# Altium integrated library TI Converter Analog to Digital.IntLib: 146 symbols (part 1 of 4)
Pins are listed as number, name and electrical type; pins without a type are passive.

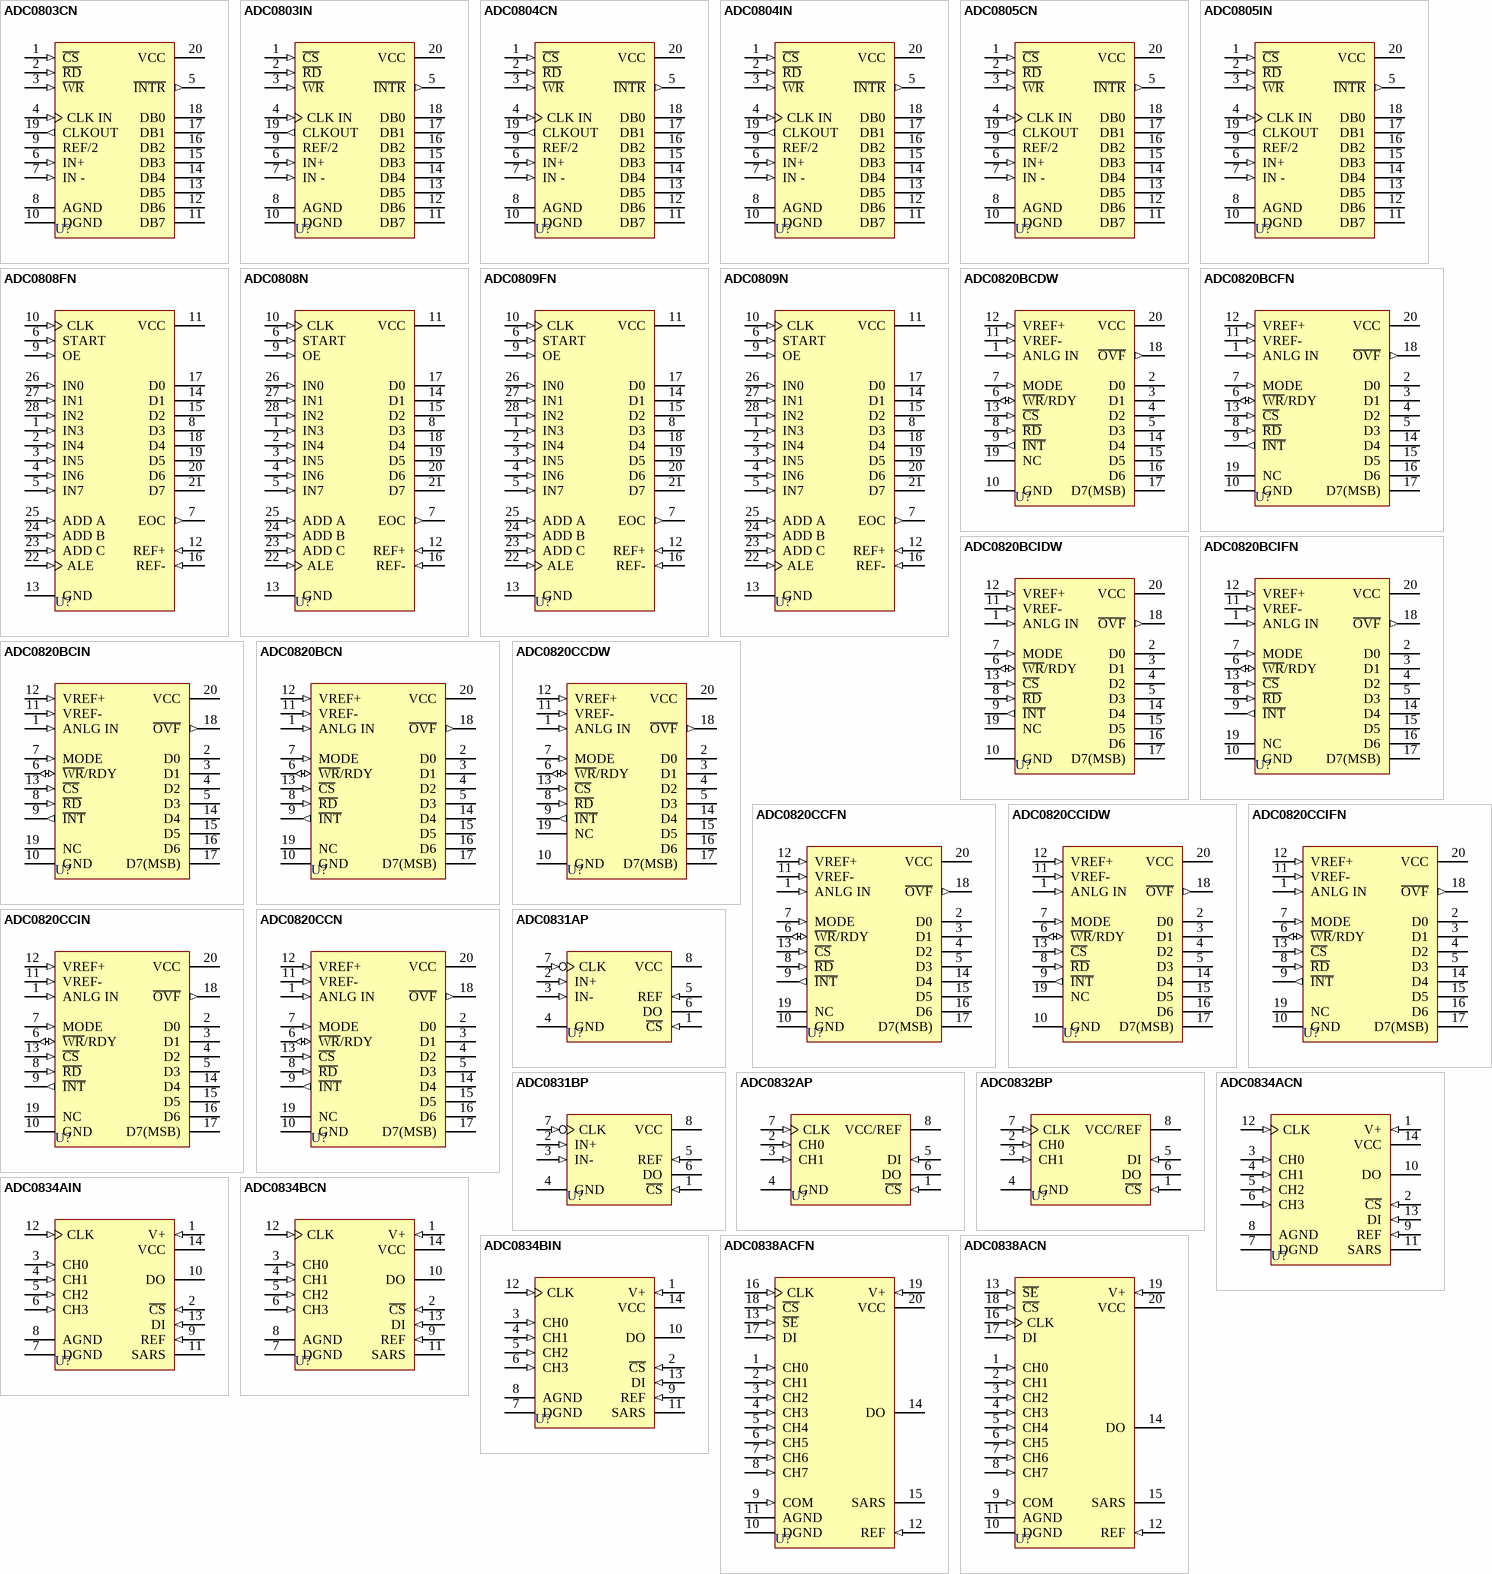
[diagram p0: symbols ADC0803CN to ADC0838ACN]

## ADC0803CN
designator U?
8-Bit Analog-to-Digital Converter with Differential Inputs; Published: 15-Apr-2002; LatestRevisionDate: 08-Jul-2005; LatestRevisionNote: Stylized 3D Model Added.; DatasheetVersion: Sep-1986; PackageVersion: Oct-1995; PackageReference: N020; Publisher: Altium Limited; PackageDescription: DIP; 20 Leads; Row Spacing 7.62 mm; Pitch 2.54 mm; ComponentLink1Description: Manufacturer Link; ComponentLink1URL: http://www.ti.com/; ComponentLink2Description: Datasheet; ComponentLink2URL: http://www-s.ti.com/sc/ds/adc0805.pdf
footprint N020 (DIP; 20 Leads; Row Spacing 7.62 mm; Pitch 2.54 mm)
3D model N020 (DIP; 20 Leads; Row Spacing 7.62 mm; Pitch 2.54 mm)
pins: 1 ~{CS} (in), 2 ~{RD} (in), 3 ~{WR} (in), 4 CLK IN (in), 5 ~{INTR} (out), 6 IN+ (in), 7 IN - (in), 8 AGND (power), 9 REF/2, 10 DGND (power), 11 DB7 (hiz), 12 DB6 (hiz), 13 DB5 (hiz), 14 DB4 (hiz), 15 DB3 (hiz), 16 DB2 (hiz), 17 DB1 (hiz), 18 DB0 (hiz), 19 CLKOUT (out), 20 VCC (power)

## ADC0803IN
designator U?
8-Bit Analog-to-Digital Converter with Differential Inputs; Published: 15-Apr-2002; LatestRevisionDate: 08-Jul-2005; LatestRevisionNote: Stylized 3D Model Added.; DatasheetVersion: Sep-1986; PackageVersion: Oct-1995; PackageReference: N020; Publisher: Altium Limited; PackageDescription: DIP; 20 Leads; Row Spacing 7.62 mm; Pitch 2.54 mm; ComponentLink1Description: Manufacturer Link; ComponentLink1URL: http://www.ti.com/; ComponentLink2Description: Datasheet; ComponentLink2URL: http://www-s.ti.com/sc/ds/adc0805.pdf
footprint N020 (DIP; 20 Leads; Row Spacing 7.62 mm; Pitch 2.54 mm)
3D model N020 (DIP; 20 Leads; Row Spacing 7.62 mm; Pitch 2.54 mm)
pins: 1 ~{CS} (in), 2 ~{RD} (in), 3 ~{WR} (in), 4 CLK IN (in), 5 ~{INTR} (out), 6 IN+ (in), 7 IN - (in), 8 AGND (power), 9 REF/2, 10 DGND (power), 11 DB7 (hiz), 12 DB6 (hiz), 13 DB5 (hiz), 14 DB4 (hiz), 15 DB3 (hiz), 16 DB2 (hiz), 17 DB1 (hiz), 18 DB0 (hiz), 19 CLKOUT (out), 20 VCC (power)

## ADC0804CN
designator U?
8-Bit Analog-to-Digital Converter with Differential Inputs; ComponentAvailability: Obsolete; Published: 15-Apr-2002; LatestRevisionDate: 08-Jul-2005; LatestRevisionNote: Stylized 3D Model Added.; DatasheetVersion: Oct-1988; PackageVersion: Oct-1995; PackageReference: N020; Publisher: Altium Limited; PackageDescription: DIP; 20 Leads; Row Spacing 7.62 mm; Pitch 2.54 mm; ComponentLink1Description: Manufacturer Link; ComponentLink1URL: http://www.ti.com/; ComponentLink2Description: Datasheet; ComponentLink2URL: http://www-s.ti.com/sc/ds/adc0804.pdf
footprint N020 (DIP; 20 Leads; Row Spacing 7.62 mm; Pitch 2.54 mm)
3D model N020 (DIP; 20 Leads; Row Spacing 7.62 mm; Pitch 2.54 mm)
pins: 1 ~{CS} (in), 2 ~{RD} (in), 3 ~{WR} (in), 4 CLK IN (in), 5 ~{INTR} (out), 6 IN+ (in), 7 IN - (in), 8 AGND (power), 9 REF/2, 10 DGND (power), 11 DB7 (hiz), 12 DB6 (hiz), 13 DB5 (hiz), 14 DB4 (hiz), 15 DB3 (hiz), 16 DB2 (hiz), 17 DB1 (hiz), 18 DB0 (hiz), 19 CLKOUT (out), 20 VCC (power)

## ADC0804IN
designator U?
8-Bit Analog-to-Digital Converter with Differential Inputs; ComponentAvailability: Obsolete; Published: 15-Apr-2002; LatestRevisionDate: 08-Jul-2005; LatestRevisionNote: Stylized 3D Model Added.; DatasheetVersion: Oct-1988; PackageVersion: Oct-1995; PackageReference: N020; Publisher: Altium Limited; PackageDescription: DIP; 20 Leads; Row Spacing 7.62 mm; Pitch 2.54 mm; ComponentLink1Description: Manufacturer Link; ComponentLink1URL: http://www.ti.com/; ComponentLink2Description: Datasheet; ComponentLink2URL: http://www-s.ti.com/sc/ds/adc0804.pdf
footprint N020 (DIP; 20 Leads; Row Spacing 7.62 mm; Pitch 2.54 mm)
3D model N020 (DIP; 20 Leads; Row Spacing 7.62 mm; Pitch 2.54 mm)
pins: 1 ~{CS} (in), 2 ~{RD} (in), 3 ~{WR} (in), 4 CLK IN (in), 5 ~{INTR} (out), 6 IN+ (in), 7 IN - (in), 8 AGND (power), 9 REF/2, 10 DGND (power), 11 DB7 (hiz), 12 DB6 (hiz), 13 DB5 (hiz), 14 DB4 (hiz), 15 DB3 (hiz), 16 DB2 (hiz), 17 DB1 (hiz), 18 DB0 (hiz), 19 CLKOUT (out), 20 VCC (power)

## ADC0805CN
designator U?
8-Bit Analog-to-Digital Converter with Differential Inputs; Published: 15-Apr-2002; LatestRevisionDate: 08-Jul-2005; LatestRevisionNote: Stylized 3D Model Added.; DatasheetVersion: Sep-1986; PackageVersion: Oct-1995; PackageReference: N020; Publisher: Altium Limited; PackageDescription: DIP; 20 Leads; Row Spacing 7.62 mm; Pitch 2.54 mm; ComponentLink1Description: Manufacturer Link; ComponentLink1URL: http://www.ti.com/; ComponentLink2Description: Datasheet; ComponentLink2URL: http://www-s.ti.com/sc/ds/adc0805.pdf
footprint N020 (DIP; 20 Leads; Row Spacing 7.62 mm; Pitch 2.54 mm)
3D model N020 (DIP; 20 Leads; Row Spacing 7.62 mm; Pitch 2.54 mm)
pins: 1 ~{CS} (in), 2 ~{RD} (in), 3 ~{WR} (in), 4 CLK IN (in), 5 ~{INTR} (out), 6 IN+ (in), 7 IN - (in), 8 AGND (power), 9 REF/2, 10 DGND (power), 11 DB7 (hiz), 12 DB6 (hiz), 13 DB5 (hiz), 14 DB4 (hiz), 15 DB3 (hiz), 16 DB2 (hiz), 17 DB1 (hiz), 18 DB0 (hiz), 19 CLKOUT (out), 20 VCC (power)

## ADC0805IN
designator U?
8-Bit Analog-to-Digital Converter with Differential Inputs; Published: 15-Apr-2002; LatestRevisionDate: 08-Jul-2005; LatestRevisionNote: Stylized 3D Model Added.; DatasheetVersion: Sep-1986; PackageVersion: Oct-1995; PackageReference: N020; Publisher: Altium Limited; PackageDescription: DIP; 20 Leads; Row Spacing 7.62 mm; Pitch 2.54 mm; ComponentLink1Description: Manufacturer Link; ComponentLink1URL: http://www.ti.com/; ComponentLink2Description: Datasheet; ComponentLink2URL: http://www-s.ti.com/sc/ds/adc0805.pdf
footprint N020 (DIP; 20 Leads; Row Spacing 7.62 mm; Pitch 2.54 mm)
3D model N020 (DIP; 20 Leads; Row Spacing 7.62 mm; Pitch 2.54 mm)
pins: 1 ~{CS} (in), 2 ~{RD} (in), 3 ~{WR} (in), 4 CLK IN (in), 5 ~{INTR} (out), 6 IN+ (in), 7 IN - (in), 8 AGND (power), 9 REF/2, 10 DGND (power), 11 DB7 (hiz), 12 DB6 (hiz), 13 DB5 (hiz), 14 DB4 (hiz), 15 DB3 (hiz), 16 DB2 (hiz), 17 DB1 (hiz), 18 DB0 (hiz), 19 CLKOUT (out), 20 VCC (power)

## ADC0808FN
designator U?
CMOS Analog-to-Digital Converter with 8-Channel Multiplexer; ComponentAvailability: Obsolete; Published: 15-Apr-2002; LatestRevisionDate: 13-Apr-2006; LatestRevisionNote: IPC-7351 Footprint Added.; DatasheetVersion: May-1988; PackageVersion: Oct-1994; PackageReference: FN028; Publisher: Altium Limited; PackageDescription: 28-Pin Leaded Chip Carrier 1.27 mm Pitch; Code_JEDEC: MS-018; Code_IPC: PLCC-28; ComponentLink1Description: Manufacturer Link; ComponentLink1URL: http://www.ti.com/
footprint FN028_N (Leaded Chip Carrier, 28-Leads, Body 11.5x11.5mm, Pitch 1.27mm, IPC Medium Density)
footprint FN028_L (Leaded Chip Carrier, 28-Leads, Body 11.5x11.5mm, Pitch 1.27mm, IPC High Density)
footprint FN028_M (Leaded Chip Carrier, 28-Leads, Body 11.5x11.5mm, Pitch 1.27mm, IPC Low Density)
3D model ADC0808-FN028 (28-Pin Leaded Chip Carrier 1.27 mm Pitch)
pins: 1 IN3 (in), 2 IN4 (in), 3 IN5 (in), 4 IN6 (in), 5 IN7 (in), 6 START (in), 7 EOC (out), 8 D3 (hiz), 9 OE (in), 10 CLK (in), 11 VCC (power), 12 REF+ (in), 13 GND (power), 14 D1 (hiz), 15 D2 (hiz), 16 REF- (in), 17 D0 (hiz), 18 D4 (hiz), 19 D5 (hiz), 20 D6 (hiz), 21 D7 (hiz), 22 ALE (in), 23 ADD C (in), 24 ADD B (in), 25 ADD A (in), 26 IN0 (in), 27 IN1 (in), 28 IN2 (in)

## ADC0808N
designator U?
CMOS Analog-to-Digital Converter with 8-Channel Multiplexer; ComponentAvailability: Obsolete; Published: 15-Apr-2002; LatestRevisionDate: 08-Jul-2005; LatestRevisionNote: Stylized 3D Model Added.; DatasheetVersion: May-1988; PackageVersion: Oct-1994; PackageReference: N028; Publisher: Altium Limited; PackageDescription: DIP; 28 Leads; Row Spacing 15.24 mm; Pitch 2.54 mm; ComponentLink1Description: Manufacturer Link; ComponentLink1URL: http://www.ti.com/
footprint N028 (DIP; 28 Leads; Row Spacing 15.24 mm; Pitch 2.54 mm)
3D model N028 (DIP; 28 Leads; Row Spacing 15.24 mm; Pitch 2.54 mm)
pins: 1 IN3 (in), 2 IN4 (in), 3 IN5 (in), 4 IN6 (in), 5 IN7 (in), 6 START (in), 7 EOC (out), 8 D3 (hiz), 9 OE (in), 10 CLK (in), 11 VCC (power), 12 REF+ (in), 13 GND (power), 14 D1 (hiz), 15 D2 (hiz), 16 REF- (in), 17 D0 (hiz), 18 D4 (hiz), 19 D5 (hiz), 20 D6 (hiz), 21 D7 (hiz), 22 ALE (in), 23 ADD C (in), 24 ADD B (in), 25 ADD A (in), 26 IN0 (in), 27 IN1 (in), 28 IN2 (in)

## ADC0809FN
designator U?
CMOS Analog-to-Digital Converter with 8-Channel Multiplexer; ComponentAvailability: Obsolete; Published: 15-Apr-2002; LatestRevisionDate: 13-Apr-2006; LatestRevisionNote: IPC-7351 Footprint Added.; DatasheetVersion: May-1988; PackageVersion: Oct-1994; PackageReference: FN028; Publisher: Altium Limited; PackageDescription: 28-Pin Leaded Chip Carrier 1.27 mm Pitch; Code_JEDEC: MS-018; Code_IPC: PLCC-28; ComponentLink1Description: Manufacturer Link; ComponentLink1URL: http://www.ti.com/
footprint FN028_N (Leaded Chip Carrier, 28-Leads, Body 11.5x11.5mm, Pitch 1.27mm, IPC Medium Density)
footprint FN028_L (Leaded Chip Carrier, 28-Leads, Body 11.5x11.5mm, Pitch 1.27mm, IPC High Density)
footprint FN028_M (Leaded Chip Carrier, 28-Leads, Body 11.5x11.5mm, Pitch 1.27mm, IPC Low Density)
3D model ADC0809-FN028 (28-Pin Leaded Chip Carrier 1.27 mm Pitch)
pins: 1 IN3 (in), 2 IN4 (in), 3 IN5 (in), 4 IN6 (in), 5 IN7 (in), 6 START (in), 7 EOC (out), 8 D3 (hiz), 9 OE (in), 10 CLK (in), 11 VCC (power), 12 REF+ (in), 13 GND (power), 14 D1 (hiz), 15 D2 (hiz), 16 REF- (in), 17 D0 (hiz), 18 D4 (hiz), 19 D5 (hiz), 20 D6 (hiz), 21 D7 (hiz), 22 ALE (in), 23 ADD C (in), 24 ADD B (in), 25 ADD A (in), 26 IN0 (in), 27 IN1 (in), 28 IN2 (in)

## ADC0809N
designator U?
CMOS Analog-to-Digital Converter with 8-Channel Multiplexer; ComponentAvailability: Obsolete; Published: 15-Apr-2002; LatestRevisionDate: 08-Jul-2005; LatestRevisionNote: Stylized 3D Model Added.; DatasheetVersion: May-1988; PackageVersion: Oct-1994; PackageReference: N028; Publisher: Altium Limited; PackageDescription: DIP; 28 Leads; Row Spacing 15.24 mm; Pitch 2.54 mm; ComponentLink1Description: Manufacturer Link; ComponentLink1URL: http://www.ti.com/
footprint N028 (DIP; 28 Leads; Row Spacing 15.24 mm; Pitch 2.54 mm)
3D model N028 (DIP; 28 Leads; Row Spacing 15.24 mm; Pitch 2.54 mm)
pins: 1 IN3 (in), 2 IN4 (in), 3 IN5 (in), 4 IN6 (in), 5 IN7 (in), 6 START (in), 7 EOC (out), 8 D3 (hiz), 9 OE (in), 10 CLK (in), 11 VCC (power), 12 REF+ (in), 13 GND (power), 14 D1 (hiz), 15 D2 (hiz), 16 REF- (in), 17 D0 (hiz), 18 D4 (hiz), 19 D5 (hiz), 20 D6 (hiz), 21 D7 (hiz), 22 ALE (in), 23 ADD C (in), 24 ADD B (in), 25 ADD A (in), 26 IN0 (in), 27 IN1 (in), 28 IN2 (in)

## ADC0820BCDW
designator U?
Advanced LinCMOS High-Speed 8-Bit Analog-to-Digital Converter using Modified FLASH Techniques; Published: 15-Apr-2002; LatestRevisionDate: 13-Apr-2006; LatestRevisionNote: IPC-7351 Footprint Added.; DatasheetVersion: Feb-1989; PackageVersion: Mar-2000; PackageReference: DW020; Publisher: Altium Limited; PackageDescription: 20-Pin Plastic Small Outline Integrated Circuit 1.27 mm Pitch; Code_JEDEC: MS-013; Code_IPC: SOIC127P1030-20; ComponentLink1Description: Manufacturer Link; ComponentLink1URL: http://www.ti.com/
footprint DW020_N (SOIC, 20-Leads, Body 12.8x7.5mm, Pitch 1.27mm, IPC Medium Density)
footprint DW020_L (SOIC, 20-Leads, Body 12.8x7.5mm, Pitch 1.27mm, IPC High Density)
footprint DW020_M (SOIC, 20-Leads, Body 12.8x7.5mm, Pitch 1.27mm, IPC Low Density)
3D model DW020 (20-Pin Plastic Small Outline Integrated Circuit 1.27 mm Pitch)
pins: 1 ANLG IN (in), 2 D0 (hiz), 3 D1 (hiz), 4 D2 (hiz), 5 D3 (hiz), 6 ~{WR}/RDY (io), 7 MODE (in), 8 ~{RD} (in), 9 ~{INT} (out), 10 GND (power), 11 VREF- (in), 12 VREF+ (in), 13 ~{CS} (in), 14 D4 (hiz), 15 D5 (hiz), 16 D6 (hiz), 17 D7(MSB) (hiz), 18 ~{OVF} (out), 19 NC, 20 VCC (power)

## ADC0820BCFN
designator U?
Advanced LinCMOS High-Speed 8-Bit Analog-to-Digital Converter using Modified FLASH Techniques; Published: 15-Apr-2002; LatestRevisionDate: 13-Apr-2006; LatestRevisionNote: IPC-7351 Footprint Added.; DatasheetVersion: Feb-1989; PackageVersion: Oct-1994; PackageReference: FN020; Publisher: Altium Limited; PackageDescription: 20-Pin Leaded Chip Carrier 1.27 mm Pitch; Code_IPC: PLCC-20; ComponentLink1Description: Manufacturer Link; ComponentLink1URL: http://www.ti.com/
footprint FN020_N (Leaded Chip Carrier, 20-Leads, Body 9x9mm, Pitch 1.27mm, IPC Medium Density)
footprint FN020_L (Leaded Chip Carrier, 20-Leads, Body 9x9mm, Pitch 1.27mm, IPC High Density)
footprint FN020_M (Leaded Chip Carrier, 20-Leads, Body 9x9mm, Pitch 1.27mm, IPC Low Density)
3D model ADC0820-FN020 (20-Pin Leaded Chip Carrier 1.27 mm Pitch)
pins: 1 ANLG IN (in), 2 D0 (hiz), 3 D1 (hiz), 4 D2 (hiz), 5 D3 (hiz), 6 ~{WR}/RDY (io), 7 MODE (in), 8 ~{RD} (in), 9 ~{INT} (out), 10 GND (power), 11 VREF- (in), 12 VREF+ (in), 13 ~{CS} (in), 14 D4 (hiz), 15 D5 (hiz), 16 D6 (hiz), 17 D7(MSB) (hiz), 18 ~{OVF} (out), 19 NC, 20 VCC (power)

## ADC0820BCIDW
designator U?
Advanced LinCMOS High-Speed 8-Bit Analog-to-Digital Converter using Modified FLASH Techniques; Published: 15-Apr-2002; LatestRevisionDate: 13-Apr-2006; LatestRevisionNote: IPC-7351 Footprint Added.; DatasheetVersion: Feb-1989; PackageVersion: Mar-2000; PackageReference: DW020; Publisher: Altium Limited; PackageDescription: 20-Pin Plastic Small Outline Integrated Circuit 1.27 mm Pitch; Code_JEDEC: MS-013; Code_IPC: SOIC127P1030-20; ComponentLink1Description: Manufacturer Link; ComponentLink1URL: http://www.ti.com/
footprint DW020_N (SOIC, 20-Leads, Body 12.8x7.5mm, Pitch 1.27mm, IPC Medium Density)
footprint DW020_L (SOIC, 20-Leads, Body 12.8x7.5mm, Pitch 1.27mm, IPC High Density)
footprint DW020_M (SOIC, 20-Leads, Body 12.8x7.5mm, Pitch 1.27mm, IPC Low Density)
3D model DW020 (20-Pin Plastic Small Outline Integrated Circuit 1.27 mm Pitch)
pins: 1 ANLG IN (in), 2 D0 (hiz), 3 D1 (hiz), 4 D2 (hiz), 5 D3 (hiz), 6 ~{WR}/RDY (io), 7 MODE (in), 8 ~{RD} (in), 9 ~{INT} (out), 10 GND (power), 11 VREF- (in), 12 VREF+ (in), 13 ~{CS} (in), 14 D4 (hiz), 15 D5 (hiz), 16 D6 (hiz), 17 D7(MSB) (hiz), 18 ~{OVF} (out), 19 NC, 20 VCC (power)

## ADC0820BCIFN
designator U?
Advanced LinCMOS High-Speed 8-Bit Analog-to-Digital Converter using Modified FLASH Techniques; Published: 15-Apr-2002; LatestRevisionDate: 13-Apr-2006; LatestRevisionNote: IPC-7351 Footprint Added.; DatasheetVersion: Feb-1989; PackageVersion: Oct-1994; PackageReference: FN020; Publisher: Altium Limited; PackageDescription: 20-Pin Leaded Chip Carrier 1.27 mm Pitch; Code_IPC: PLCC-20; ComponentLink1Description: Manufacturer Link; ComponentLink1URL: http://www.ti.com/
footprint FN020_N (Leaded Chip Carrier, 20-Leads, Body 9x9mm, Pitch 1.27mm, IPC Medium Density)
footprint FN020_L (Leaded Chip Carrier, 20-Leads, Body 9x9mm, Pitch 1.27mm, IPC High Density)
footprint FN020_M (Leaded Chip Carrier, 20-Leads, Body 9x9mm, Pitch 1.27mm, IPC Low Density)
3D model ADC0820-FN020 (20-Pin Leaded Chip Carrier 1.27 mm Pitch)
pins: 1 ANLG IN (in), 2 D0 (hiz), 3 D1 (hiz), 4 D2 (hiz), 5 D3 (hiz), 6 ~{WR}/RDY (io), 7 MODE (in), 8 ~{RD} (in), 9 ~{INT} (out), 10 GND (power), 11 VREF- (in), 12 VREF+ (in), 13 ~{CS} (in), 14 D4 (hiz), 15 D5 (hiz), 16 D6 (hiz), 17 D7(MSB) (hiz), 18 ~{OVF} (out), 19 NC, 20 VCC (power)

## ADC0820BCIN
designator U?
Advanced LinCMOS High-Speed 8-Bit Analog-to-Digital Converter using Modified FLASH Techniques; Published: 15-Apr-2002; LatestRevisionDate: 08-Jul-2005; LatestRevisionNote: Stylized 3D Model Added.; DatasheetVersion: Feb-1989; PackageVersion: Oct-1995; PackageReference: N020; Publisher: Altium Limited; PackageDescription: DIP; 20 Leads; Row Spacing 7.62 mm; Pitch 2.54 mm; ComponentLink1Description: Manufacturer Link; ComponentLink1URL: http://www.ti.com/
footprint N020 (DIP; 20 Leads; Row Spacing 7.62 mm; Pitch 2.54 mm)
3D model N020 (DIP; 20 Leads; Row Spacing 7.62 mm; Pitch 2.54 mm)
pins: 1 ANLG IN (in), 2 D0 (hiz), 3 D1 (hiz), 4 D2 (hiz), 5 D3 (hiz), 6 ~{WR}/RDY (io), 7 MODE (in), 8 ~{RD} (in), 9 ~{INT} (out), 10 GND (power), 11 VREF- (in), 12 VREF+ (in), 13 ~{CS} (in), 14 D4 (hiz), 15 D5 (hiz), 16 D6 (hiz), 17 D7(MSB) (hiz), 18 ~{OVF} (out), 19 NC, 20 VCC (power)

## ADC0820BCN
designator U?
Advanced LinCMOS High-Speed 8-Bit Analog-to-Digital Converter using Modified FLASH Techniques; Published: 15-Apr-2002; LatestRevisionDate: 08-Jul-2005; LatestRevisionNote: Stylized 3D Model Added.; DatasheetVersion: Feb-1989; PackageVersion: Oct-1995; PackageReference: N020; Publisher: Altium Limited; PackageDescription: DIP; 20 Leads; Row Spacing 7.62 mm; Pitch 2.54 mm; ComponentLink1Description: Manufacturer Link; ComponentLink1URL: http://www.ti.com/
footprint N020 (DIP; 20 Leads; Row Spacing 7.62 mm; Pitch 2.54 mm)
3D model N020 (DIP; 20 Leads; Row Spacing 7.62 mm; Pitch 2.54 mm)
pins: 1 ANLG IN (in), 2 D0 (hiz), 3 D1 (hiz), 4 D2 (hiz), 5 D3 (hiz), 6 ~{WR}/RDY (io), 7 MODE (in), 8 ~{RD} (in), 9 ~{INT} (out), 10 GND (power), 11 VREF- (in), 12 VREF+ (in), 13 ~{CS} (in), 14 D4 (hiz), 15 D5 (hiz), 16 D6 (hiz), 17 D7(MSB) (hiz), 18 ~{OVF} (out), 19 NC, 20 VCC (power)

## ADC0820CCDW
designator U?
Advanced LinCMOS High-Speed 8-Bit Analog-to-Digital Converter using Modified FLASH Techniques; Published: 15-Apr-2002; LatestRevisionDate: 13-Apr-2006; LatestRevisionNote: IPC-7351 Footprint Added.; DatasheetVersion: Feb-1989; PackageVersion: Mar-2000; PackageReference: DW020; Publisher: Altium Limited; PackageDescription: 20-Pin Plastic Small Outline Integrated Circuit 1.27 mm Pitch; Code_JEDEC: MS-013; Code_IPC: SOIC127P1030-20; ComponentLink1Description: Manufacturer Link; ComponentLink1URL: http://www.ti.com/
footprint DW020_N (SOIC, 20-Leads, Body 12.8x7.5mm, Pitch 1.27mm, IPC Medium Density)
footprint DW020_L (SOIC, 20-Leads, Body 12.8x7.5mm, Pitch 1.27mm, IPC High Density)
footprint DW020_M (SOIC, 20-Leads, Body 12.8x7.5mm, Pitch 1.27mm, IPC Low Density)
3D model DW020 (20-Pin Plastic Small Outline Integrated Circuit 1.27 mm Pitch)
pins: 1 ANLG IN (in), 2 D0 (hiz), 3 D1 (hiz), 4 D2 (hiz), 5 D3 (hiz), 6 ~{WR}/RDY (io), 7 MODE (in), 8 ~{RD} (in), 9 ~{INT} (out), 10 GND (power), 11 VREF- (in), 12 VREF+ (in), 13 ~{CS} (in), 14 D4 (hiz), 15 D5 (hiz), 16 D6 (hiz), 17 D7(MSB) (hiz), 18 ~{OVF} (out), 19 NC, 20 VCC (power)

## ADC0820CCFN
designator U?
Advanced LinCMOS High-Speed 8-Bit Analog-to-Digital Converter using Modified FLASH Techniques; Published: 15-Apr-2002; LatestRevisionDate: 13-Apr-2006; LatestRevisionNote: IPC-7351 Footprint Added.; DatasheetVersion: Feb-1989; PackageVersion: Oct-1994; PackageReference: FN020; Publisher: Altium Limited; PackageDescription: 20-Pin Leaded Chip Carrier 1.27 mm Pitch; Code_IPC: PLCC-20; ComponentLink1Description: Manufacturer Link; ComponentLink1URL: http://www.ti.com/
footprint FN020_N (Leaded Chip Carrier, 20-Leads, Body 9x9mm, Pitch 1.27mm, IPC Medium Density)
footprint FN020_L (Leaded Chip Carrier, 20-Leads, Body 9x9mm, Pitch 1.27mm, IPC High Density)
footprint FN020_M (Leaded Chip Carrier, 20-Leads, Body 9x9mm, Pitch 1.27mm, IPC Low Density)
3D model ADC0820-FN020 (20-Pin Leaded Chip Carrier 1.27 mm Pitch)
pins: 1 ANLG IN (in), 2 D0 (hiz), 3 D1 (hiz), 4 D2 (hiz), 5 D3 (hiz), 6 ~{WR}/RDY (io), 7 MODE (in), 8 ~{RD} (in), 9 ~{INT} (out), 10 GND (power), 11 VREF- (in), 12 VREF+ (in), 13 ~{CS} (in), 14 D4 (hiz), 15 D5 (hiz), 16 D6 (hiz), 17 D7(MSB) (hiz), 18 ~{OVF} (out), 19 NC, 20 VCC (power)

## ADC0820CCIDW
designator U?
Advanced LinCMOS High-Speed 8-Bit Analog-to-Digital Converter using Modified FLASH Techniques; Published: 15-Apr-2002; LatestRevisionDate: 13-Apr-2006; LatestRevisionNote: IPC-7351 Footprint Added.; DatasheetVersion: Feb-1989; PackageVersion: Mar-2000; PackageReference: DW020; Publisher: Altium Limited; PackageDescription: 20-Pin Plastic Small Outline Integrated Circuit 1.27 mm Pitch; Code_JEDEC: MS-013; Code_IPC: SOIC127P1030-20; ComponentLink1Description: Manufacturer Link; ComponentLink1URL: http://www.ti.com/
footprint DW020_N (SOIC, 20-Leads, Body 12.8x7.5mm, Pitch 1.27mm, IPC Medium Density)
footprint DW020_L (SOIC, 20-Leads, Body 12.8x7.5mm, Pitch 1.27mm, IPC High Density)
footprint DW020_M (SOIC, 20-Leads, Body 12.8x7.5mm, Pitch 1.27mm, IPC Low Density)
3D model DW020 (20-Pin Plastic Small Outline Integrated Circuit 1.27 mm Pitch)
pins: 1 ANLG IN (in), 2 D0 (hiz), 3 D1 (hiz), 4 D2 (hiz), 5 D3 (hiz), 6 ~{WR}/RDY (io), 7 MODE (in), 8 ~{RD} (in), 9 ~{INT} (out), 10 GND (power), 11 VREF- (in), 12 VREF+ (in), 13 ~{CS} (in), 14 D4 (hiz), 15 D5 (hiz), 16 D6 (hiz), 17 D7(MSB) (hiz), 18 ~{OVF} (out), 19 NC, 20 VCC (power)

## ADC0820CCIFN
designator U?
Advanced LinCMOS High-Speed 8-Bit Analog-to-Digital Converter using Modified FLASH Techniques; Published: 15-Apr-2002; LatestRevisionDate: 13-Apr-2006; LatestRevisionNote: IPC-7351 Footprint Added.; DatasheetVersion: Feb-1989; PackageVersion: Oct-1994; PackageReference: FN020; Publisher: Altium Limited; PackageDescription: 20-Pin Leaded Chip Carrier 1.27 mm Pitch; Code_IPC: PLCC-20; ComponentLink1Description: Manufacturer Link; ComponentLink1URL: http://www.ti.com/
footprint FN020_N (Leaded Chip Carrier, 20-Leads, Body 9x9mm, Pitch 1.27mm, IPC Medium Density)
footprint FN020_L (Leaded Chip Carrier, 20-Leads, Body 9x9mm, Pitch 1.27mm, IPC High Density)
footprint FN020_M (Leaded Chip Carrier, 20-Leads, Body 9x9mm, Pitch 1.27mm, IPC Low Density)
3D model ADC0820-FN020 (20-Pin Leaded Chip Carrier 1.27 mm Pitch)
pins: 1 ANLG IN (in), 2 D0 (hiz), 3 D1 (hiz), 4 D2 (hiz), 5 D3 (hiz), 6 ~{WR}/RDY (io), 7 MODE (in), 8 ~{RD} (in), 9 ~{INT} (out), 10 GND (power), 11 VREF- (in), 12 VREF+ (in), 13 ~{CS} (in), 14 D4 (hiz), 15 D5 (hiz), 16 D6 (hiz), 17 D7(MSB) (hiz), 18 ~{OVF} (out), 19 NC, 20 VCC (power)

## ADC0820CCIN
designator U?
Advanced LinCMOS High-Speed 8-Bit Analog-to-Digital Converter using Modified FLASH Techniques; Published: 15-Apr-2002; LatestRevisionDate: 08-Jul-2005; LatestRevisionNote: Stylized 3D Model Added.; DatasheetVersion: Feb-1989; PackageVersion: Oct-1995; PackageReference: N020; Publisher: Altium Limited; PackageDescription: DIP; 20 Leads; Row Spacing 7.62 mm; Pitch 2.54 mm; ComponentLink1Description: Manufacturer Link; ComponentLink1URL: http://www.ti.com/
footprint N020 (DIP; 20 Leads; Row Spacing 7.62 mm; Pitch 2.54 mm)
3D model N020 (DIP; 20 Leads; Row Spacing 7.62 mm; Pitch 2.54 mm)
pins: 1 ANLG IN (in), 2 D0 (hiz), 3 D1 (hiz), 4 D2 (hiz), 5 D3 (hiz), 6 ~{WR}/RDY (io), 7 MODE (in), 8 ~{RD} (in), 9 ~{INT} (out), 10 GND (power), 11 VREF- (in), 12 VREF+ (in), 13 ~{CS} (in), 14 D4 (hiz), 15 D5 (hiz), 16 D6 (hiz), 17 D7(MSB) (hiz), 18 ~{OVF} (out), 19 NC, 20 VCC (power)

## ADC0820CCN
designator U?
Advanced LinCMOS High-Speed 8-Bit Analog-to-Digital Converter using Modified FLASH Techniques; Published: 15-Apr-2002; LatestRevisionDate: 08-Jul-2005; LatestRevisionNote: Stylized 3D Model Added.; DatasheetVersion: Feb-1989; PackageVersion: Oct-1995; PackageReference: N020; Publisher: Altium Limited; PackageDescription: DIP; 20 Leads; Row Spacing 7.62 mm; Pitch 2.54 mm; ComponentLink1Description: Manufacturer Link; ComponentLink1URL: http://www.ti.com/
footprint N020 (DIP; 20 Leads; Row Spacing 7.62 mm; Pitch 2.54 mm)
3D model N020 (DIP; 20 Leads; Row Spacing 7.62 mm; Pitch 2.54 mm)
pins: 1 ANLG IN (in), 2 D0 (hiz), 3 D1 (hiz), 4 D2 (hiz), 5 D3 (hiz), 6 ~{WR}/RDY (io), 7 MODE (in), 8 ~{RD} (in), 9 ~{INT} (out), 10 GND (power), 11 VREF- (in), 12 VREF+ (in), 13 ~{CS} (in), 14 D4 (hiz), 15 D5 (hiz), 16 D6 (hiz), 17 D7(MSB) (hiz), 18 ~{OVF} (out), 19 NC, 20 VCC (power)

## ADC0831AP
designator U?
A/D Peripheral with Serial Control; ComponentAvailability: Obsolete; Published: 15-Apr-2002; LatestRevisionDate: 08-Jul-2005; LatestRevisionNote: Stylized 3D Model Added.; DatasheetVersion: Jun-1986; PackageVersion: Jun-1999; PackageReference: P008; Publisher: Altium Limited; PackageDescription: DIP; 8 Leads; Row Spacing 7.62 mm; Pitch 2.54 mm; Code_JEDEC: MO-001-AN; ComponentLink1Description: Manufacturer Link; ComponentLink1URL: http://www.ti.com/
footprint P008 (DIP; 8 Leads; Row Spacing 7.62 mm; Pitch 2.54 mm)
3D model P008 (DIP; 8 Leads; Row Spacing 7.62 mm; Pitch 2.54 mm)
pins: 1 ~{CS} (in), 2 IN+ (in), 3 IN- (in), 4 GND (power), 5 REF (in), 6 DO (hiz), 7 CLK (in), 8 VCC (power)

## ADC0831BP
designator U?
A/D Peripheral with Serial Control; ComponentAvailability: Obsolete; Published: 15-Apr-2002; LatestRevisionDate: 08-Jul-2005; LatestRevisionNote: Stylized 3D Model Added.; DatasheetVersion: Jun-1986; PackageVersion: Jun-1999; PackageReference: P008; Publisher: Altium Limited; PackageDescription: DIP; 8 Leads; Row Spacing 7.62 mm; Pitch 2.54 mm; Code_JEDEC: MO-001-AN; ComponentLink1Description: Manufacturer Link; ComponentLink1URL: http://www.ti.com/
footprint P008 (DIP; 8 Leads; Row Spacing 7.62 mm; Pitch 2.54 mm)
3D model P008 (DIP; 8 Leads; Row Spacing 7.62 mm; Pitch 2.54 mm)
pins: 1 ~{CS} (in), 2 IN+ (in), 3 IN- (in), 4 GND (power), 5 REF (in), 6 DO (hiz), 7 CLK (in), 8 VCC (power)

## ADC0832AP
designator U?
A/D Peripheral with Serial Control; ComponentAvailability: Obsolete; Published: 15-Apr-2002; LatestRevisionDate: 08-Jul-2005; LatestRevisionNote: Stylized 3D Model Added.; DatasheetVersion: Jun-1986; PackageVersion: Jun-1999; PackageReference: P008; Publisher: Altium Limited; PackageDescription: DIP; 8 Leads; Row Spacing 7.62 mm; Pitch 2.54 mm; Code_JEDEC: MO-001-AN; ComponentLink1Description: Manufacturer Link; ComponentLink1URL: http://www.ti.com/
footprint P008 (DIP; 8 Leads; Row Spacing 7.62 mm; Pitch 2.54 mm)
3D model P008 (DIP; 8 Leads; Row Spacing 7.62 mm; Pitch 2.54 mm)
pins: 1 ~{CS} (in), 2 CH0 (in), 3 CH1 (in), 4 GND (power), 5 DI (in), 6 DO (hiz), 7 CLK (in), 8 VCC/REF (power)

## ADC0832BP
designator U?
A/D Peripheral with Serial Control; ComponentAvailability: Obsolete; Published: 15-Apr-2002; LatestRevisionDate: 08-Jul-2005; LatestRevisionNote: Stylized 3D Model Added.; DatasheetVersion: Jun-1986; PackageVersion: Jun-1999; PackageReference: P008; Publisher: Altium Limited; PackageDescription: DIP; 8 Leads; Row Spacing 7.62 mm; Pitch 2.54 mm; Code_JEDEC: MO-001-AN; ComponentLink1Description: Manufacturer Link; ComponentLink1URL: http://www.ti.com/
footprint P008 (DIP; 8 Leads; Row Spacing 7.62 mm; Pitch 2.54 mm)
3D model P008 (DIP; 8 Leads; Row Spacing 7.62 mm; Pitch 2.54 mm)
pins: 1 ~{CS} (in), 2 CH0 (in), 3 CH1 (in), 4 GND (power), 5 DI (in), 6 DO (hiz), 7 CLK (in), 8 VCC/REF (power)

## ADC0834ACN
designator U?
A/D Peripheral with Serial Control; ComponentAvailability: Obsolete; Published: 15-Apr-2002; LatestRevisionDate: 08-Jul-2005; LatestRevisionNote: Stylized 3D Model Added.; DatasheetVersion: Oct-1986; PackageVersion: Oct-1995; PackageReference: N014; Publisher: Altium Limited; PackageDescription: DIP; 14 Leads; Row Spacing 7.62 mm; Pitch 2.54 mm; ComponentLink1Description: Manufacturer Link; ComponentLink1URL: http://www.ti.com/
footprint N014 (DIP; 14 Leads; Row Spacing 7.62 mm; Pitch 2.54 mm)
3D model N014 (DIP; 14 Leads; Row Spacing 7.62 mm; Pitch 2.54 mm)
pins: 1 V+ (in), 2 ~{CS} (in), 3 CH0 (in), 4 CH1 (in), 5 CH2 (in), 6 CH3 (in), 7 DGND (power), 8 AGND (power), 9 REF (in), 10 DO (hiz), 11 SARS (hiz), 12 CLK (in), 13 DI (in), 14 VCC (power)

## ADC0834AIN
designator U?
A/D Peripheral with Serial Control; ComponentAvailability: Obsolete; Published: 15-Apr-2002; LatestRevisionDate: 08-Jul-2005; LatestRevisionNote: Stylized 3D Model Added.; DatasheetVersion: Oct-1986; PackageVersion: Oct-1995; PackageReference: N014; Publisher: Altium Limited; PackageDescription: DIP; 14 Leads; Row Spacing 7.62 mm; Pitch 2.54 mm; ComponentLink1Description: Manufacturer Link; ComponentLink1URL: http://www.ti.com/
footprint N014 (DIP; 14 Leads; Row Spacing 7.62 mm; Pitch 2.54 mm)
3D model N014 (DIP; 14 Leads; Row Spacing 7.62 mm; Pitch 2.54 mm)
pins: 1 V+ (in), 2 ~{CS} (in), 3 CH0 (in), 4 CH1 (in), 5 CH2 (in), 6 CH3 (in), 7 DGND (power), 8 AGND (power), 9 REF (in), 10 DO (hiz), 11 SARS (hiz), 12 CLK (in), 13 DI (in), 14 VCC (power)

## ADC0834BCN
designator U?
A/D Peripheral with Serial Control; ComponentAvailability: Obsolete; Published: 15-Apr-2002; LatestRevisionDate: 08-Jul-2005; LatestRevisionNote: Stylized 3D Model Added.; DatasheetVersion: Oct-1986; PackageVersion: Oct-1995; PackageReference: N014; Publisher: Altium Limited; PackageDescription: DIP; 14 Leads; Row Spacing 7.62 mm; Pitch 2.54 mm; ComponentLink1Description: Manufacturer Link; ComponentLink1URL: http://www.ti.com/
footprint N014 (DIP; 14 Leads; Row Spacing 7.62 mm; Pitch 2.54 mm)
3D model N014 (DIP; 14 Leads; Row Spacing 7.62 mm; Pitch 2.54 mm)
pins: 1 V+ (in), 2 ~{CS} (in), 3 CH0 (in), 4 CH1 (in), 5 CH2 (in), 6 CH3 (in), 7 DGND (power), 8 AGND (power), 9 REF (in), 10 DO (hiz), 11 SARS (hiz), 12 CLK (in), 13 DI (in), 14 VCC (power)

## ADC0834BIN
designator U?
A/D Peripheral with Serial Control; ComponentAvailability: Obsolete; Published: 15-Apr-2002; LatestRevisionDate: 08-Jul-2005; LatestRevisionNote: Stylized 3D Model Added.; DatasheetVersion: Oct-1986; PackageVersion: Oct-1995; PackageReference: N014; Publisher: Altium Limited; PackageDescription: DIP; 14 Leads; Row Spacing 7.62 mm; Pitch 2.54 mm; ComponentLink1Description: Manufacturer Link; ComponentLink1URL: http://www.ti.com/
footprint N014 (DIP; 14 Leads; Row Spacing 7.62 mm; Pitch 2.54 mm)
3D model N014 (DIP; 14 Leads; Row Spacing 7.62 mm; Pitch 2.54 mm)
pins: 1 V+ (in), 2 ~{CS} (in), 3 CH0 (in), 4 CH1 (in), 5 CH2 (in), 6 CH3 (in), 7 DGND (power), 8 AGND (power), 9 REF (in), 10 DO (hiz), 11 SARS (hiz), 12 CLK (in), 13 DI (in), 14 VCC (power)

## ADC0838ACFN
designator U?
A/D Peripheral with Serial Control; ComponentAvailability: Obsolete; Published: 15-Apr-2002; LatestRevisionDate: 13-Apr-2006; LatestRevisionNote: IPC-7351 Footprint Added.; DatasheetVersion: Oct-1986; PackageVersion: Oct-1994; PackageReference: FN020; Publisher: Altium Limited; PackageDescription: 20-Pin Leaded Chip Carrier 1.27 mm Pitch; Code_IPC: PLCC-20; ComponentLink1Description: Manufacturer Link; ComponentLink1URL: http://www.ti.com/
footprint FN020_N (Leaded Chip Carrier, 20-Leads, Body 9x9mm, Pitch 1.27mm, IPC Medium Density)
footprint FN020_L (Leaded Chip Carrier, 20-Leads, Body 9x9mm, Pitch 1.27mm, IPC High Density)
footprint FN020_M (Leaded Chip Carrier, 20-Leads, Body 9x9mm, Pitch 1.27mm, IPC Low Density)
3D model ADC0838-FN020 (20-Pin Leaded Chip Carrier 1.27 mm Pitch)
pins: 1 CH0 (in), 2 CH1 (in), 3 CH2 (in), 4 CH3 (in), 5 CH4 (in), 6 CH5 (in), 7 CH6 (in), 8 CH7 (in), 9 COM (in), 10 DGND (power), 11 AGND (power), 12 REF (in), 13 ~{SE} (in), 14 DO (hiz), 15 SARS (hiz), 16 CLK (in), 17 DI (in), 18 ~{CS} (in), 19 V+ (in), 20 VCC (power)

## ADC0838ACN
designator U?
A/D Peripheral with Serial Control; ComponentAvailability: Obsolete; Published: 15-Apr-2002; LatestRevisionDate: 08-Jul-2005; LatestRevisionNote: Stylized 3D Model Added.; DatasheetVersion: Oct-1986; PackageVersion: Oct-1995; PackageReference: N020; Publisher: Altium Limited; PackageDescription: DIP; 20 Leads; Row Spacing 7.62 mm; Pitch 2.54 mm; ComponentLink1Description: Manufacturer Link; ComponentLink1URL: http://www.ti.com/
footprint N020 (DIP; 20 Leads; Row Spacing 7.62 mm; Pitch 2.54 mm)
3D model N020 (DIP; 20 Leads; Row Spacing 7.62 mm; Pitch 2.54 mm)
pins: 1 CH0 (in), 2 CH1 (in), 3 CH2 (in), 4 CH3 (in), 5 CH4 (in), 6 CH5 (in), 7 CH6 (in), 8 CH7 (in), 9 COM (in), 10 DGND (power), 11 AGND (power), 12 REF (in), 13 ~{SE} (in), 14 DO (hiz), 15 SARS (hiz), 16 CLK (in), 17 DI (in), 18 ~{CS} (in), 19 V+ (in), 20 VCC (power)

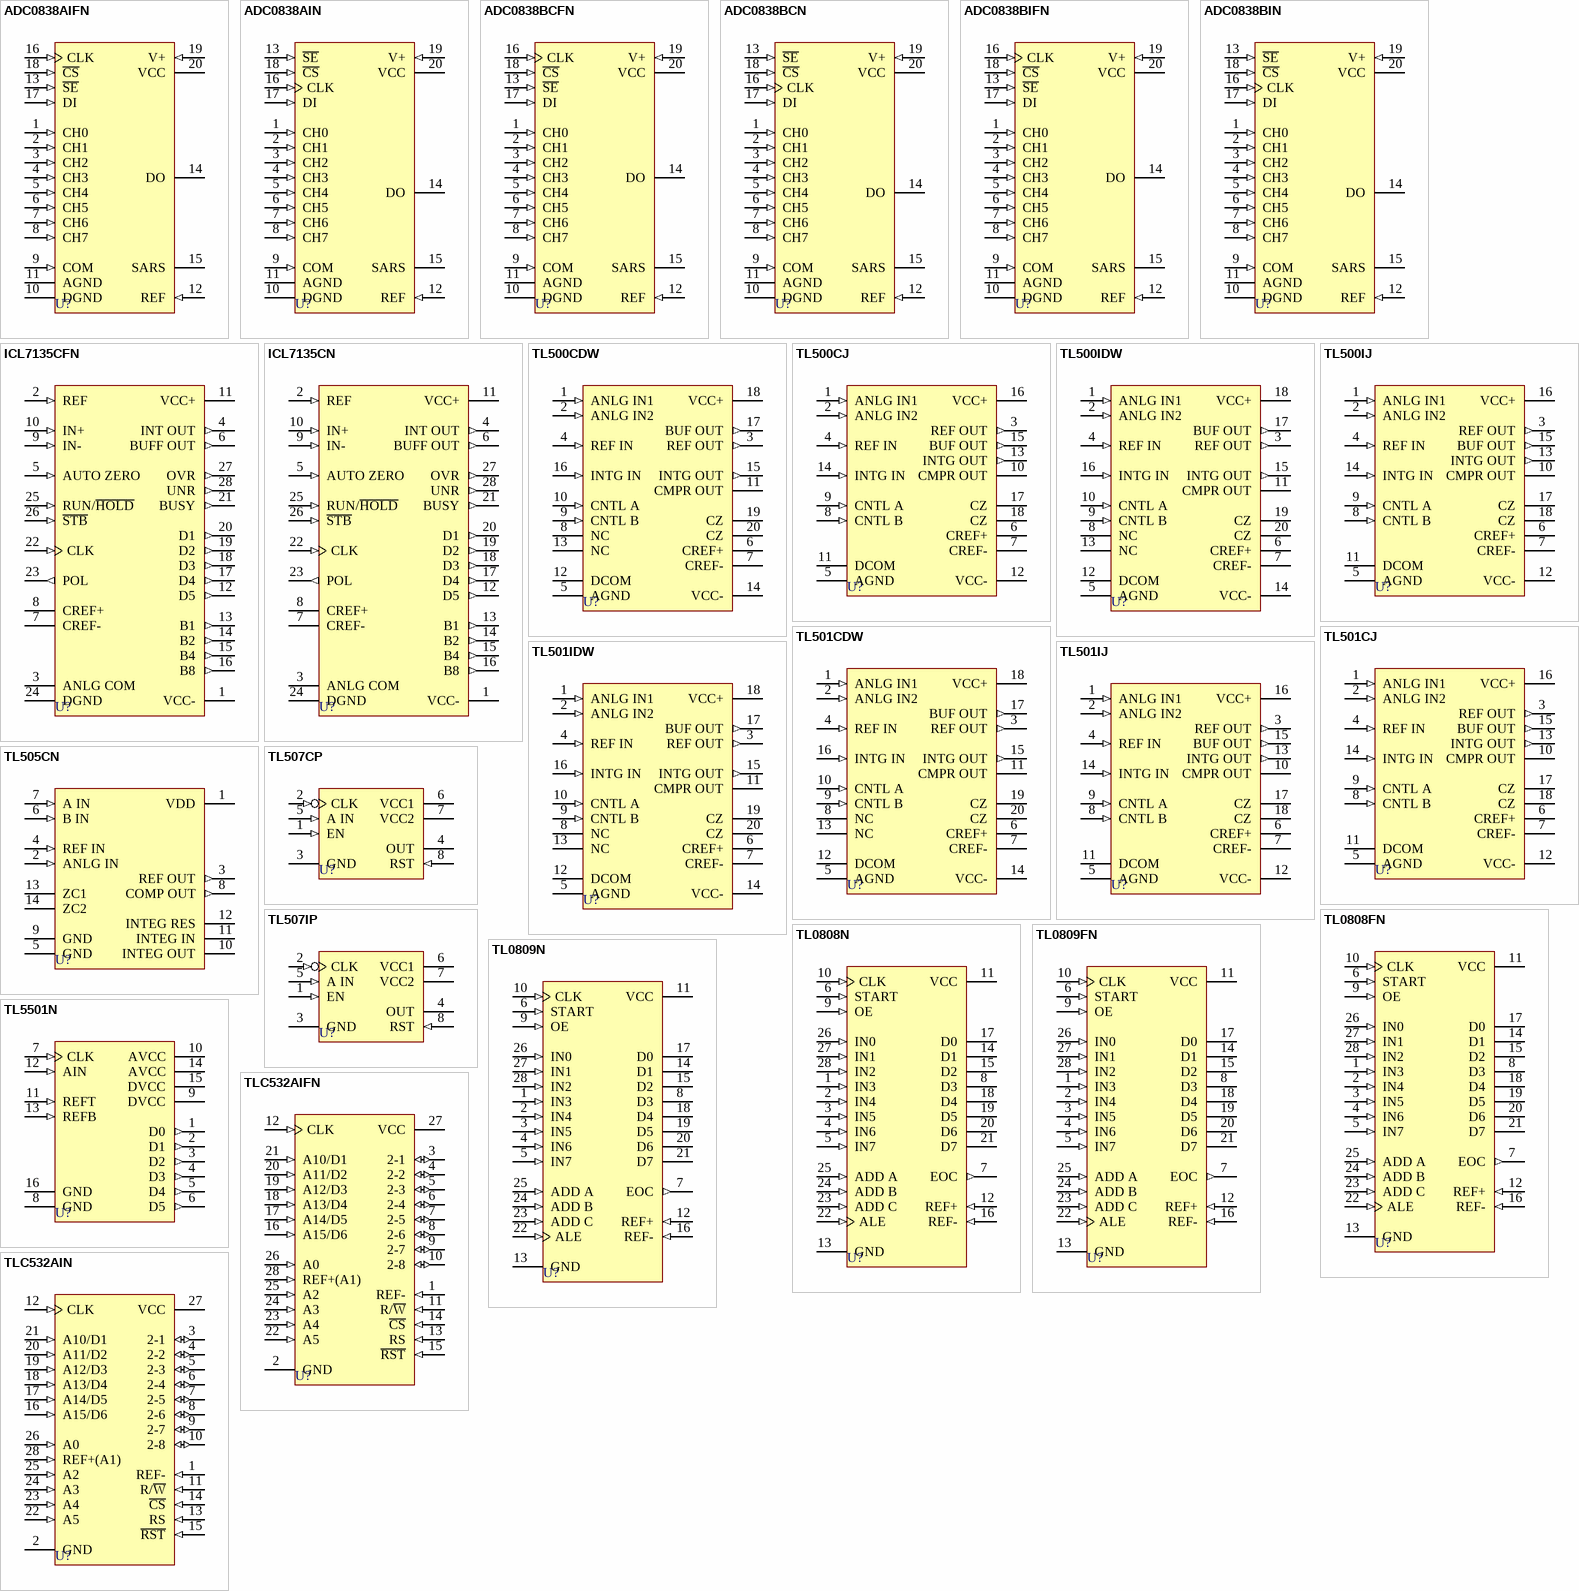
[diagram p1: symbols ADC0838AIFN to TLC532AIN]

## ADC0838AIFN
designator U?
A/D Peripheral with Serial Control; ComponentAvailability: Obsolete; Published: 15-Apr-2002; LatestRevisionDate: 13-Apr-2006; LatestRevisionNote: IPC-7351 Footprint Added.; DatasheetVersion: Oct-1986; PackageVersion: Oct-1994; PackageReference: FN020; Publisher: Altium Limited; PackageDescription: 20-Pin Leaded Chip Carrier 1.27 mm Pitch; Code_IPC: PLCC-20; ComponentLink1Description: Manufacturer Link; ComponentLink1URL: http://www.ti.com/
footprint FN020_N (Leaded Chip Carrier, 20-Leads, Body 9x9mm, Pitch 1.27mm, IPC Medium Density)
footprint FN020_L (Leaded Chip Carrier, 20-Leads, Body 9x9mm, Pitch 1.27mm, IPC High Density)
footprint FN020_M (Leaded Chip Carrier, 20-Leads, Body 9x9mm, Pitch 1.27mm, IPC Low Density)
3D model ADC0838-FN020 (20-Pin Leaded Chip Carrier 1.27 mm Pitch)
pins: 1 CH0 (in), 2 CH1 (in), 3 CH2 (in), 4 CH3 (in), 5 CH4 (in), 6 CH5 (in), 7 CH6 (in), 8 CH7 (in), 9 COM (in), 10 DGND (power), 11 AGND (power), 12 REF (in), 13 ~{SE} (in), 14 DO (hiz), 15 SARS (hiz), 16 CLK (in), 17 DI (in), 18 ~{CS} (in), 19 V+ (in), 20 VCC (power)

## ADC0838AIN
designator U?
A/D Peripheral with Serial Control; ComponentAvailability: Obsolete; Published: 15-Apr-2002; LatestRevisionDate: 08-Jul-2005; LatestRevisionNote: Stylized 3D Model Added.; DatasheetVersion: Oct-1986; PackageVersion: Oct-1995; PackageReference: N020; Publisher: Altium Limited; PackageDescription: DIP; 20 Leads; Row Spacing 7.62 mm; Pitch 2.54 mm; ComponentLink1Description: Manufacturer Link; ComponentLink1URL: http://www.ti.com/
footprint N020 (DIP; 20 Leads; Row Spacing 7.62 mm; Pitch 2.54 mm)
3D model N020 (DIP; 20 Leads; Row Spacing 7.62 mm; Pitch 2.54 mm)
pins: 1 CH0 (in), 2 CH1 (in), 3 CH2 (in), 4 CH3 (in), 5 CH4 (in), 6 CH5 (in), 7 CH6 (in), 8 CH7 (in), 9 COM (in), 10 DGND (power), 11 AGND (power), 12 REF (in), 13 ~{SE} (in), 14 DO (hiz), 15 SARS (hiz), 16 CLK (in), 17 DI (in), 18 ~{CS} (in), 19 V+ (in), 20 VCC (power)

## ADC0838BCFN
designator U?
A/D Peripheral with Serial Control; ComponentAvailability: Obsolete; Published: 15-Apr-2002; LatestRevisionDate: 13-Apr-2006; LatestRevisionNote: IPC-7351 Footprint Added.; DatasheetVersion: Oct-1986; PackageVersion: Oct-1994; PackageReference: FN020; Publisher: Altium Limited; PackageDescription: 20-Pin Leaded Chip Carrier 1.27 mm Pitch; Code_IPC: PLCC-20; ComponentLink1Description: Manufacturer Link; ComponentLink1URL: http://www.ti.com/
footprint FN020_N (Leaded Chip Carrier, 20-Leads, Body 9x9mm, Pitch 1.27mm, IPC Medium Density)
footprint FN020_L (Leaded Chip Carrier, 20-Leads, Body 9x9mm, Pitch 1.27mm, IPC High Density)
footprint FN020_M (Leaded Chip Carrier, 20-Leads, Body 9x9mm, Pitch 1.27mm, IPC Low Density)
3D model ADC0838-FN020 (20-Pin Leaded Chip Carrier 1.27 mm Pitch)
pins: 1 CH0 (in), 2 CH1 (in), 3 CH2 (in), 4 CH3 (in), 5 CH4 (in), 6 CH5 (in), 7 CH6 (in), 8 CH7 (in), 9 COM (in), 10 DGND (power), 11 AGND (power), 12 REF (in), 13 ~{SE} (in), 14 DO (hiz), 15 SARS (hiz), 16 CLK (in), 17 DI (in), 18 ~{CS} (in), 19 V+ (in), 20 VCC (power)

## ADC0838BCN
designator U?
A/D Peripheral with Serial Control; ComponentAvailability: Obsolete; Published: 15-Apr-2002; LatestRevisionDate: 08-Jul-2005; LatestRevisionNote: Stylized 3D Model Added.; DatasheetVersion: Oct-1986; PackageVersion: Oct-1995; PackageReference: N020; Publisher: Altium Limited; PackageDescription: DIP; 20 Leads; Row Spacing 7.62 mm; Pitch 2.54 mm; ComponentLink1Description: Manufacturer Link; ComponentLink1URL: http://www.ti.com/
footprint N020 (DIP; 20 Leads; Row Spacing 7.62 mm; Pitch 2.54 mm)
3D model N020 (DIP; 20 Leads; Row Spacing 7.62 mm; Pitch 2.54 mm)
pins: 1 CH0 (in), 2 CH1 (in), 3 CH2 (in), 4 CH3 (in), 5 CH4 (in), 6 CH5 (in), 7 CH6 (in), 8 CH7 (in), 9 COM (in), 10 DGND (power), 11 AGND (power), 12 REF (in), 13 ~{SE} (in), 14 DO (hiz), 15 SARS (hiz), 16 CLK (in), 17 DI (in), 18 ~{CS} (in), 19 V+ (in), 20 VCC (power)

## ADC0838BIFN
designator U?
A/D Peripheral with Serial Control; ComponentAvailability: Obsolete; Published: 15-Apr-2002; LatestRevisionDate: 13-Apr-2006; LatestRevisionNote: IPC-7351 Footprint Added.; DatasheetVersion: Oct-1986; PackageVersion: Oct-1994; PackageReference: FN020; Publisher: Altium Limited; PackageDescription: 20-Pin Leaded Chip Carrier 1.27 mm Pitch; Code_IPC: PLCC-20; ComponentLink1Description: Manufacturer Link; ComponentLink1URL: http://www.ti.com/
footprint FN020_N (Leaded Chip Carrier, 20-Leads, Body 9x9mm, Pitch 1.27mm, IPC Medium Density)
footprint FN020_L (Leaded Chip Carrier, 20-Leads, Body 9x9mm, Pitch 1.27mm, IPC High Density)
footprint FN020_M (Leaded Chip Carrier, 20-Leads, Body 9x9mm, Pitch 1.27mm, IPC Low Density)
3D model ADC0838-FN020 (20-Pin Leaded Chip Carrier 1.27 mm Pitch)
pins: 1 CH0 (in), 2 CH1 (in), 3 CH2 (in), 4 CH3 (in), 5 CH4 (in), 6 CH5 (in), 7 CH6 (in), 8 CH7 (in), 9 COM (in), 10 DGND (power), 11 AGND (power), 12 REF (in), 13 ~{SE} (in), 14 DO (hiz), 15 SARS (hiz), 16 CLK (in), 17 DI (in), 18 ~{CS} (in), 19 V+ (in), 20 VCC (power)

## ADC0838BIN
designator U?
A/D Peripheral with Serial Control; ComponentAvailability: Obsolete; Published: 15-Apr-2002; LatestRevisionDate: 08-Jul-2005; LatestRevisionNote: Stylized 3D Model Added.; DatasheetVersion: Oct-1986; PackageVersion: Oct-1995; PackageReference: N020; Publisher: Altium Limited; PackageDescription: DIP; 20 Leads; Row Spacing 7.62 mm; Pitch 2.54 mm; ComponentLink1Description: Manufacturer Link; ComponentLink1URL: http://www.ti.com/
footprint N020 (DIP; 20 Leads; Row Spacing 7.62 mm; Pitch 2.54 mm)
3D model N020 (DIP; 20 Leads; Row Spacing 7.62 mm; Pitch 2.54 mm)
pins: 1 CH0 (in), 2 CH1 (in), 3 CH2 (in), 4 CH3 (in), 5 CH4 (in), 6 CH5 (in), 7 CH6 (in), 8 CH7 (in), 9 COM (in), 10 DGND (power), 11 AGND (power), 12 REF (in), 13 ~{SE} (in), 14 DO (hiz), 15 SARS (hiz), 16 CLK (in), 17 DI (in), 18 ~{CS} (in), 19 V+ (in), 20 VCC (power)

## ICL7135CFN
designator U?
Advanced LinCMOS 4 1/2-Digit Precision Analog-to-Digital Converter; Published: 15-Apr-2002; LatestRevisionDate: 13-Apr-2006; LatestRevisionNote: IPC-7351 Footprint Added.; DatasheetVersion: Mar-1988; PackageVersion: Oct-1994; PackageReference: FN028; Publisher: Altium Limited; PackageDescription: 28-Pin Leaded Chip Carrier 1.27 mm Pitch; Code_JEDEC: MS-018; Code_IPC: PLCC-28; ComponentLink1Description: Manufacturer Link; ComponentLink1URL: http://www.ti.com/; ComponentLink2Description: Datasheet; ComponentLink2URL: http://www-s.ti.com/sc/ds/icl7135.pdf
footprint FN028_N (Leaded Chip Carrier, 28-Leads, Body 11.5x11.5mm, Pitch 1.27mm, IPC Medium Density)
footprint FN028_L (Leaded Chip Carrier, 28-Leads, Body 11.5x11.5mm, Pitch 1.27mm, IPC High Density)
footprint FN028_M (Leaded Chip Carrier, 28-Leads, Body 11.5x11.5mm, Pitch 1.27mm, IPC Low Density)
3D model ICL7135-FN028 (28-Pin Leaded Chip Carrier 1.27 mm Pitch)
pins: 1 VCC- (power), 2 REF (in), 3 ANLG COM (power), 4 INT OUT (out), 5 AUTO ZERO (in), 6 BUFF OUT (out), 7 CREF-, 8 CREF+, 9 IN- (in), 10 IN+ (in), 11 VCC+ (power), 12 D5 (out), 13 B1 (out), 14 B2 (out), 15 B4 (out), 16 B8 (out), 17 D4 (out), 18 D3 (out), 19 D2 (out), 20 D1 (out), 21 BUSY (out), 22 CLK (in), 23 POL (out), 24 DGND (power), 25 RUN/~{HOLD} (in), 26 ~{STB} (in), 27 OVR (out), 28 UNR (out)

## ICL7135CN
designator U?
Advanced LinCMOS 4 1/2-Digit Precision Analog-to-Digital Converter; Published: 15-Apr-2002; LatestRevisionDate: 08-Jul-2005; LatestRevisionNote: Stylized 3D Model Added.; DatasheetVersion: Mar-1988; PackageVersion: Oct-1994; PackageReference: N028; Publisher: Altium Limited; PackageDescription: DIP; 28 Leads; Row Spacing 15.24 mm; Pitch 2.54 mm; ComponentLink1Description: Manufacturer Link; ComponentLink1URL: http://www.ti.com/; ComponentLink2Description: Datasheet; ComponentLink2URL: http://www-s.ti.com/sc/ds/icl7135.pdf
footprint N028 (DIP; 28 Leads; Row Spacing 15.24 mm; Pitch 2.54 mm)
3D model N028 (DIP; 28 Leads; Row Spacing 15.24 mm; Pitch 2.54 mm)
pins: 1 VCC- (power), 2 REF (in), 3 ANLG COM (power), 4 INT OUT (out), 5 AUTO ZERO (in), 6 BUFF OUT (out), 7 CREF-, 8 CREF+, 9 IN- (in), 10 IN+ (in), 11 VCC+ (power), 12 D5 (out), 13 B1 (out), 14 B2 (out), 15 B4 (out), 16 B8 (out), 17 D4 (out), 18 D3 (out), 19 D2 (out), 20 D1 (out), 21 BUSY (out), 22 CLK (in), 23 POL (out), 24 DGND (power), 25 RUN/~{HOLD} (in), 26 ~{STB} (in), 27 OVR (out), 28 UNR (out)

## TL500CDW
designator U?
Analog Processor; Published: 15-Apr-2002; LatestRevisionDate: 13-Apr-2006; LatestRevisionNote: IPC-7351 Footprint Added.; DatasheetVersion: May-1988; PackageVersion: Mar-2000; PackageReference: DW020; Publisher: Altium Limited; PackageDescription: 20-Pin Plastic Small Outline Integrated Circuit 1.27 mm Pitch; Code_JEDEC: MS-013; Code_IPC: SOIC127P1030-20; ComponentLink1Description: Manufacturer Link; ComponentLink1URL: http://www.ti.com/
footprint DW020_N (SOIC, 20-Leads, Body 12.8x7.5mm, Pitch 1.27mm, IPC Medium Density)
footprint DW020_L (SOIC, 20-Leads, Body 12.8x7.5mm, Pitch 1.27mm, IPC High Density)
footprint DW020_M (SOIC, 20-Leads, Body 12.8x7.5mm, Pitch 1.27mm, IPC Low Density)
3D model DW020 (20-Pin Plastic Small Outline Integrated Circuit 1.27 mm Pitch)
pins: 1 ANLG IN1 (in), 2 ANLG IN2 (in), 3 REF OUT (out), 4 REF IN (in), 5 AGND (power), 6 CREF+, 7 CREF-, 8 NC, 9 CNTL B (in), 10 CNTL A (in), 11 CMPR OUT (oc), 12 DCOM (power), 13 NC, 14 VCC- (power), 15 INTG OUT (out), 16 INTG IN (in), 17 BUF OUT (out), 18 VCC+ (power), 19 CZ, 20 CZ

## TL500CJ
designator U?
Analog Processor; Published: 15-Apr-2002; LatestRevisionDate: 08-Jul-2005; LatestRevisionNote: Stylized 3D Model Added.; DatasheetVersion: Mar-1988; PackageVersion: 1989; PackageReference: J018; Publisher: Altium Limited; PackageDescription: DIP; 18 Leads; Row Spacing 7.62 mm; Pitch 2.54 mm; ComponentLink1Description: Manufacturer Link; ComponentLink1URL: http://www.ti.com/
footprint J018 (DIP; 18 Leads; Row Spacing 7.62 mm; Pitch 2.54 mm)
3D model J018 (DIP; 18 Leads; Row Spacing 7.62 mm; Pitch 2.54 mm)
pins: 1 ANLG IN1 (in), 2 ANLG IN2 (in), 3 REF OUT (out), 4 REF IN (in), 5 AGND (power), 6 CREF+, 7 CREF-, 8 CNTL B (in), 9 CNTL A (in), 10 CMPR OUT (oc), 11 DCOM (power), 12 VCC- (power), 13 INTG OUT (out), 14 INTG IN (in), 15 BUF OUT (out), 16 VCC+ (power), 17 CZ, 18 CZ

## TL500IDW
designator U?
Analog Processor; Published: 15-Apr-2002; LatestRevisionDate: 13-Apr-2006; LatestRevisionNote: IPC-7351 Footprint Added.; DatasheetVersion: May-1988; PackageVersion: Mar-2000; PackageReference: DW020; Publisher: Altium Limited; PackageDescription: 20-Pin Plastic Small Outline Integrated Circuit 1.27 mm Pitch; Code_JEDEC: MS-013; Code_IPC: SOIC127P1030-20; ComponentLink1Description: Manufacturer Link; ComponentLink1URL: http://www.ti.com/
footprint DW020_N (SOIC, 20-Leads, Body 12.8x7.5mm, Pitch 1.27mm, IPC Medium Density)
footprint DW020_L (SOIC, 20-Leads, Body 12.8x7.5mm, Pitch 1.27mm, IPC High Density)
footprint DW020_M (SOIC, 20-Leads, Body 12.8x7.5mm, Pitch 1.27mm, IPC Low Density)
3D model DW020 (20-Pin Plastic Small Outline Integrated Circuit 1.27 mm Pitch)
pins: 1 ANLG IN1 (in), 2 ANLG IN2 (in), 3 REF OUT (out), 4 REF IN (in), 5 AGND (power), 6 CREF+, 7 CREF-, 8 NC, 9 CNTL B (in), 10 CNTL A (in), 11 CMPR OUT (oc), 12 DCOM (power), 13 NC, 14 VCC- (power), 15 INTG OUT (out), 16 INTG IN (in), 17 BUF OUT (out), 18 VCC+ (power), 19 CZ, 20 CZ

## TL500IJ
designator U?
Analog Processor; Published: 15-Apr-2002; LatestRevisionDate: 08-Jul-2005; LatestRevisionNote: Stylized 3D Model Added.; DatasheetVersion: May-1988; PackageVersion: 1989; PackageReference: J018; Publisher: Altium Limited; PackageDescription: DIP; 18 Leads; Row Spacing 7.62 mm; Pitch 2.54 mm; ComponentLink1Description: Manufacturer Link; ComponentLink1URL: http://www.ti.com/
footprint J018 (DIP; 18 Leads; Row Spacing 7.62 mm; Pitch 2.54 mm)
3D model J018 (DIP; 18 Leads; Row Spacing 7.62 mm; Pitch 2.54 mm)
pins: 1 ANLG IN1 (in), 2 ANLG IN2 (in), 3 REF OUT (out), 4 REF IN (in), 5 AGND (power), 6 CREF+, 7 CREF-, 8 CNTL B (in), 9 CNTL A (in), 10 CMPR OUT (oc), 11 DCOM (power), 12 VCC- (power), 13 INTG OUT (out), 14 INTG IN (in), 15 BUF OUT (out), 16 VCC+ (power), 17 CZ, 18 CZ

## TL501CDW
designator U?
Analog Processor; Published: 15-Apr-2002; LatestRevisionDate: 13-Apr-2006; LatestRevisionNote: IPC-7351 Footprint Added.; DatasheetVersion: May-1988; PackageVersion: Mar-2000; PackageReference: DW020; Publisher: Altium Limited; PackageDescription: 20-Pin Plastic Small Outline Integrated Circuit 1.27 mm Pitch; Code_JEDEC: MS-013; Code_IPC: SOIC127P1030-20; ComponentLink1Description: Manufacturer Link; ComponentLink1URL: http://www.ti.com/
footprint DW020_N (SOIC, 20-Leads, Body 12.8x7.5mm, Pitch 1.27mm, IPC Medium Density)
footprint DW020_L (SOIC, 20-Leads, Body 12.8x7.5mm, Pitch 1.27mm, IPC High Density)
footprint DW020_M (SOIC, 20-Leads, Body 12.8x7.5mm, Pitch 1.27mm, IPC Low Density)
3D model DW020 (20-Pin Plastic Small Outline Integrated Circuit 1.27 mm Pitch)
pins: 1 ANLG IN1 (in), 2 ANLG IN2 (in), 3 REF OUT (out), 4 REF IN (in), 5 AGND (power), 6 CREF+, 7 CREF-, 8 NC, 9 CNTL B (in), 10 CNTL A (in), 11 CMPR OUT (oc), 12 DCOM (power), 13 NC, 14 VCC- (power), 15 INTG OUT (out), 16 INTG IN (in), 17 BUF OUT (out), 18 VCC+ (power), 19 CZ, 20 CZ

## TL501CJ
designator U?
Analog Processor; Published: 15-Apr-2002; LatestRevisionDate: 08-Jul-2005; LatestRevisionNote: Stylized 3D Model Added.; DatasheetVersion: May-1988; PackageVersion: 1989; PackageReference: J018; Publisher: Altium Limited; PackageDescription: DIP; 18 Leads; Row Spacing 7.62 mm; Pitch 2.54 mm; ComponentLink1Description: Manufacturer Link; ComponentLink1URL: http://www.ti.com/
footprint J018 (DIP; 18 Leads; Row Spacing 7.62 mm; Pitch 2.54 mm)
3D model J018 (DIP; 18 Leads; Row Spacing 7.62 mm; Pitch 2.54 mm)
pins: 1 ANLG IN1 (in), 2 ANLG IN2 (in), 3 REF OUT (out), 4 REF IN (in), 5 AGND (power), 6 CREF+, 7 CREF-, 8 CNTL B (in), 9 CNTL A (in), 10 CMPR OUT (oc), 11 DCOM (power), 12 VCC- (power), 13 INTG OUT (out), 14 INTG IN (in), 15 BUF OUT (out), 16 VCC+ (power), 17 CZ, 18 CZ

## TL501IDW
designator U?
Analog Processor; Published: 15-Apr-2002; LatestRevisionDate: 13-Apr-2006; LatestRevisionNote: IPC-7351 Footprint Added.; DatasheetVersion: May-1988; PackageVersion: Mar-2000; PackageReference: DW020; Publisher: Altium Limited; PackageDescription: 20-Pin Plastic Small Outline Integrated Circuit 1.27 mm Pitch; Code_JEDEC: MS-013; Code_IPC: SOIC127P1030-20; ComponentLink1Description: Manufacturer Link; ComponentLink1URL: http://www.ti.com/
footprint DW020_N (SOIC, 20-Leads, Body 12.8x7.5mm, Pitch 1.27mm, IPC Medium Density)
footprint DW020_L (SOIC, 20-Leads, Body 12.8x7.5mm, Pitch 1.27mm, IPC High Density)
footprint DW020_M (SOIC, 20-Leads, Body 12.8x7.5mm, Pitch 1.27mm, IPC Low Density)
3D model DW020 (20-Pin Plastic Small Outline Integrated Circuit 1.27 mm Pitch)
pins: 1 ANLG IN1 (in), 2 ANLG IN2 (in), 3 REF OUT (out), 4 REF IN (in), 5 AGND (power), 6 CREF+, 7 CREF-, 8 NC, 9 CNTL B (in), 10 CNTL A (in), 11 CMPR OUT (oc), 12 DCOM (power), 13 NC, 14 VCC- (power), 15 INTG OUT (out), 16 INTG IN (in), 17 BUF OUT (out), 18 VCC+ (power), 19 CZ, 20 CZ

## TL501IJ
designator U?
Analog Processor; Published: 15-Apr-2002; LatestRevisionDate: 08-Jul-2005; LatestRevisionNote: Stylized 3D Model Added.; DatasheetVersion: Mar-1988; PackageVersion: 1989; PackageReference: J018; Publisher: Altium Limited; PackageDescription: DIP; 18 Leads; Row Spacing 7.62 mm; Pitch 2.54 mm; ComponentLink1Description: Manufacturer Link; ComponentLink1URL: http://www.ti.com/
footprint J018 (DIP; 18 Leads; Row Spacing 7.62 mm; Pitch 2.54 mm)
3D model J018 (DIP; 18 Leads; Row Spacing 7.62 mm; Pitch 2.54 mm)
pins: 1 ANLG IN1 (in), 2 ANLG IN2 (in), 3 REF OUT (out), 4 REF IN (in), 5 AGND (power), 6 CREF+, 7 CREF-, 8 CNTL B (in), 9 CNTL A (in), 10 CMPR OUT (oc), 11 DCOM (power), 12 VCC- (power), 13 INTG OUT (out), 14 INTG IN (in), 15 BUF OUT (out), 16 VCC+ (power), 17 CZ, 18 CZ

## TL505CN
designator U?
Analog-to-Digital Converter; Published: 15-Apr-2002; LatestRevisionDate: 08-Jul-2005; LatestRevisionNote: Stylized 3D Model Added.; DatasheetVersion: Feb-1989; PackageVersion: Oct-1995; PackageReference: N016; Publisher: Altium Limited; PackageDescription: DIP; 16 Leads; Row Spacing 7.62 mm; Pitch 2.54 mm; Code_JEDEC: MS-001-BB; ComponentLink1Description: Manufacturer Link; ComponentLink1URL: http://www.ti.com/
footprint N016 (DIP; 16 Leads; Row Spacing 7.62 mm; Pitch 2.54 mm)
3D model N016 (DIP; 16 Leads; Row Spacing 7.62 mm; Pitch 2.54 mm)
pins: 1 VDD (power), 2 ANLG IN (in), 3 REF OUT (out), 4 REF IN (in), 5 GND (power), 6 B IN (in), 7 A IN (in), 8 COMP OUT (out), 9 GND (power), 10 INTEG OUT, 11 INTEG IN, 12 INTEG RES, 13 ZC1, 14 ZC2

## TL507CP
designator U?
Analog-to-Digital Converter; ComponentAvailability: Obsolete; Published: 15-Apr-2002; LatestRevisionDate: 08-Jul-2005; LatestRevisionNote: Stylized 3D Model Added.; DatasheetVersion: Oct-1988; PackageVersion: Jun-1999; PackageReference: P008; Publisher: Altium Limited; PackageDescription: DIP; 8 Leads; Row Spacing 7.62 mm; Pitch 2.54 mm; Code_JEDEC: MO-001-AN; ComponentLink1Description: Manufacturer Link; ComponentLink1URL: http://www.ti.com/; ComponentLink2Description: Datasheet; ComponentLink2URL: http://www-s.ti.com/sc/ds/tl507.pdf
footprint P008 (DIP; 8 Leads; Row Spacing 7.62 mm; Pitch 2.54 mm)
3D model P008 (DIP; 8 Leads; Row Spacing 7.62 mm; Pitch 2.54 mm)
pins: 1 EN (in), 2 CLK (in), 3 GND (power), 4 OUT (oc), 5 A IN (in), 6 VCC1 (power), 7 VCC2 (power), 8 RST (in)

## TL507IP
designator U?
Analog-to-Digital Converter; ComponentAvailability: Obsolete; Published: 15-Apr-2002; LatestRevisionDate: 08-Jul-2005; LatestRevisionNote: Stylized 3D Model Added.; DatasheetVersion: Oct-1988; PackageVersion: Jun-1999; PackageReference: P008; Publisher: Altium Limited; PackageDescription: DIP; 8 Leads; Row Spacing 7.62 mm; Pitch 2.54 mm; Code_JEDEC: MO-001-AN; ComponentLink1Description: Manufacturer Link; ComponentLink1URL: http://www.ti.com/; ComponentLink2Description: Datasheet; ComponentLink2URL: http://www-s.ti.com/sc/ds/tl507.pdf
footprint P008 (DIP; 8 Leads; Row Spacing 7.62 mm; Pitch 2.54 mm)
3D model P008 (DIP; 8 Leads; Row Spacing 7.62 mm; Pitch 2.54 mm)
pins: 1 EN (in), 2 CLK (in), 3 GND (power), 4 OUT (oc), 5 A IN (in), 6 VCC1 (power), 7 VCC2 (power), 8 RST (in)